# EAGLE library part RCLAMP0504FB (library U-Semtec-RCLAMP0504FB)
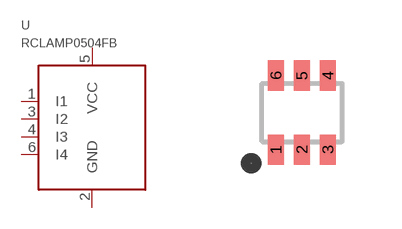
[diagram p0: symbol with the pads of SC70-6; footprint SC70-6]

Designator prefix U

## RCLAMP0504FB (DPN: RCLAMP0504FBTCTCT-ND; MPN: RCLAMP0504FBTCT)  [SC70-6]
1  I1
2  GND  sup
3  I2
4  I3
5  VCC  pwr
6  I4

## Footprint SC70-6 (pad centres in mm)
smd 0.4 x 0.75: 1 -0.65,-0.925; 2 0,-0.925; 3 0.65,-0.925; 4 0.65,0.925; 5 0,0.925; 6 -0.65,0.925